# Altium integrated library Infineon_Power_MOSFET.IntLib: 1448 symbols (part 13 of 47)
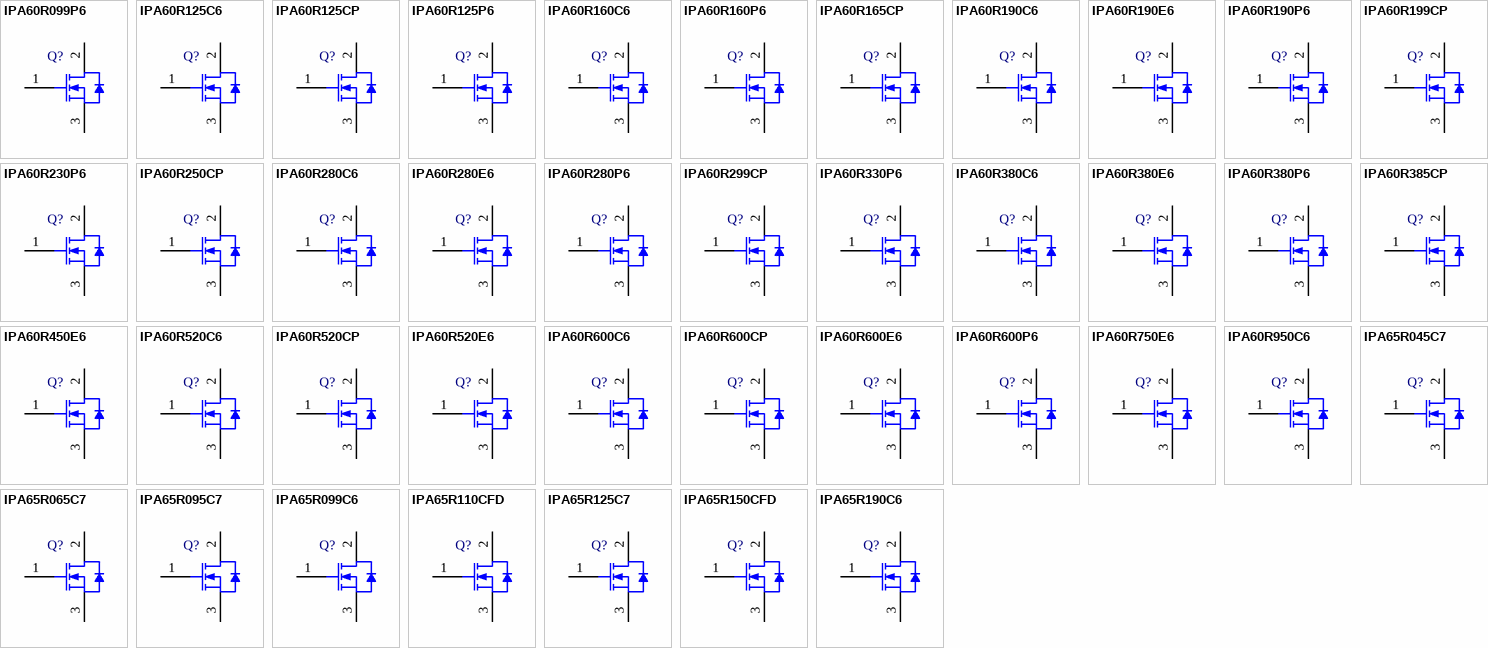
[diagram p49: symbols IPA60R099P6 to IPA65R190C6]

## IPA60R190E6
designator Q?
N-Channel CoolMOS E6 Power-Transistor, 600 V VDS, 20.2 A ID, -55 to 150 degC, PG-TO220-3-31, Tube, Green; Manufacturer: Infineon; PartNumber: IPA60R190E6; Green: TRUE; ID (max): 20.2 A; IDpuls (max): 59 A; Polarity: N; Ptot (max): 34 W; QG: 63 nC; RDS (on) (max): 190 mOhm; Rth: 3.7 K/W; RthJA (max): 80 K/W; VDS (max): 600 V; VGS(th) (max): 3.5 V; VGS(th) (min): 2.5 V; DatasheetVersion: Rev. 2.0; PackageVersion: Jan-07; PackageReference: PG-TO220-3-31; PackageDescription: 3-Pin Plastic (Green) Transistor Single Outline Package, 10.5 x 9.68 mm Body, 2.54 mm Pitch; Supplier 1: Mouser; Supplier Part Number 1: 726-IPA60R190E6; Supplier 2: Digi-Key; Supplier Part Number 2: IPA60R190E6-ND; Halogen-free: TRUE; Packing: Tube; RthJC (max): 3.7 K/W; Technology: CoolMOS E6; Mounting Technology: Through Hole; ComponentLink1Description: Manufacturer URL; ComponentLink1URL: http://www.infineon.com/; ComponentLink2Description: Datasheet; ComponentLink2URL: http://www.infineon.com/dgdl/IPA60R190E6_2_0.pdf?folderId=db3a3043156fd5730115c736bcc70ff2&fileId=db3a3043284aacd801286c9f28472921; ComponentLink3Description: Package Specification; ComponentLink3URL: http://www.infineon.com/dgdl/IPA093N06N3_Rev2+0.pdf?folderId=db3a30431441fb5d01148ca9f1be0e77&fileId=db3a3043284aacd8012882bf84115438
footprint INF-PG-TO220-3-31 (FM, 3-Leads, Body 10.5x4.7mm, Pitch 2.54mm)
pins: 1 GATE, 2 DRAIN, 3 SOURCE

## IPA60R190P6
designator Q?
N-Channel CoolMOS(TM) P6 Power Transistor, 600 V VDS, -55 to 150 degC, PG-TO220, Tube, Green; Manufacturer: Infineon; PartNumber: IPA60R190P6; Green: TRUE; Polarity: FALSE; RDS (on) (max): 190 mOhm; VDS (max): 600 V; DatasheetVersion: Rev. 2.1; PackageVersion: Jan-07; PackageReference: PG-TO220-FP; PackageDescription: 3-Pin Plastic (Green) Transistor Single Outline Package, 10.5 x 9.68 mm Body, 2.54 mm Pitch; Supplier 1: Digi-Key; Supplier Part Number 1: IPA60R190P6-ND; Supplier 2: Farnell; Supplier Part Number 2: 2420503; Supplier 3: Newark; Supplier Part Number 3: 54X5220; Halogen-free: TRUE; Packing: Tube; Mounting Technology: Through Hole; ComponentLink1Description: Manufacturer URL; ComponentLink1URL: http://www.infineon.com/; ComponentLink2Description: Datasheet; ComponentLink2URL: http://www.infineon.com/dgdl/DS_IPx60R190P6_2_1.pdf?folderId=db3a3043156fd5730115c736bcc70ff2&fileId=db3a30433f2e70c5013f37c80e24240f; ComponentLink3Description: Package Specification; ComponentLink3URL: http://www.infineon.com/dgdl/DS_IPx60R099P6_2_0.pdf?folderId=db3a3043156fd5730115c736bcc70ff2&fileId=5546d461464245d301468f0e6251673a
footprint INF-PG-TO220-FP (FM, 3-Leads, Body 10.5x4.7mm, Pitch 2.54mm)
pins: 1 GATE, 2 DRAIN, 3 SOURCE

## IPA60R199CP
designator Q?
N-Channel CoolMOS Power-Transistor, 600 V VDS, 16 A ID, -55 to 150 degC, PG-TO220-3-31, Tube, Green; Manufacturer: Infineon; PartNumber: IPA60R199CP; Green: TRUE; ID (max): 16 A; IDpuls (max): 51 A; Polarity: N; Ptot (max): 34 W; QG: 32 nC; RDS (on) (max): 199 mOhm; Rth: 3.7 K/W; RthJA (max): 80 K/W; VDS (max): 600 V; VGS(th) (max): 3.5 V; VGS(th) (min): 2.5 V; DatasheetVersion: Rev. 2.2; PackageVersion: Jan-07; PackageReference: PG-TO220-3-31; PackageDescription: 3-Pin Plastic (Green) Transistor Single Outline Package, 10.5 x 9.68 mm Body, 2.54 mm Pitch; Supplier 1: Mouser; Supplier Part Number 1: 726-IPA60R199CP; Supplier 2: Newark; Supplier Part Number 2: 33P7116; Supplier 3: Farnell; Supplier Part Number 3: 1663995; Supplier 4: Digi-Key; Supplier Part Number 4: IPA60R199CP-ND; Halogen-free: TRUE; Packing: Tube; RthJC (max): 3.7 K/W; Technology: CoolMOS CP; Mounting Technology: Through Hole; ComponentLink1Description: Manufacturer URL; ComponentLink1URL: http://www.infineon.com/; ComponentLink2Description: Datasheet; ComponentLink2URL: http://www.infineon.com/dgdl/IPA60R199CP_rev2.2.pdf?folderId=db3a304412b407950112b408e8c90004&fileId=db3a304412b407950112b42c720946ff; ComponentLink3Description: Package Specification; ComponentLink3URL: http://www.infineon.com/dgdl/IPA093N06N3_Rev2+0.pdf?folderId=db3a30431441fb5d01148ca9f1be0e77&fileId=db3a3043284aacd8012882bf84115438
footprint INF-PG-TO220-3-31 (FM, 3-Leads, Body 10.5x4.7mm, Pitch 2.54mm)
pins: 1 GATE, 2 DRAIN, 3 SOURCE

## IPA60R230P6
designator Q?
N-Channel CoolMOS(TM) P6 Power Transistor, 600 V VDS, -55 to 150 degC, PG-TO220, Tube, Green; Manufacturer: Infineon; PartNumber: IPA60R230P6; Green: TRUE; Polarity: FALSE; RDS (on) (max): 230 mOhm; VDS (max): 600 V; DatasheetVersion: Rev. 2.1; PackageVersion: Jan-07; PackageReference: PG-TO220-FP; PackageDescription: 3-Pin Plastic (Green) Transistor Single Outline Package, 10.5 x 9.68 mm Body, 2.54 mm Pitch; Supplier 1: Mouser; Supplier Part Number 1: N/A; Halogen-free: TRUE; Packing: Tube; Mounting Technology: Through Hole; ComponentLink1Description: Manufacturer URL; ComponentLink1URL: http://www.infineon.com/; ComponentLink2Description: Datasheet; ComponentLink2URL: http://www.infineon.com/dgdl/DS_IPx60R230P6_2_1.pdf?folderId=db3a3043156fd5730115c736bcc70ff2&fileId=db3a3043414fd3ef01415f8ab7321ec1; ComponentLink3Description: Package Specification; ComponentLink3URL: http://www.infineon.com/dgdl/DS_IPx60R099P6_2_0.pdf?folderId=db3a3043156fd5730115c736bcc70ff2&fileId=5546d461464245d301468f0e6251673a
footprint INF-PG-TO220-FP (FM, 3-Leads, Body 10.5x4.7mm, Pitch 2.54mm)
pins: 1 GATE, 2 DRAIN, 3 SOURCE

## IPA60R250CP
designator Q?
N-Channel CoolMOS Power-Transistor, 600 V VDS, 12 A ID, -55 to 150 degC, PG-TO220-3-31, Tube, Green; Manufacturer: Infineon; PartNumber: IPA60R250CP; Green: TRUE; ID (max): 12 A; IDpuls (max): 40 A; Polarity: N; Ptot (max): 33 W; QG: 26 nC; RDS (on) (max): 250 mOhm; Rth: 3.75 K/W; RthJA (max): 80 K/W; VDS (max): 600 V; VGS(th) (max): 3.5 V; VGS(th) (min): 2.5 V; DatasheetVersion: Rev. 2.1; PackageVersion: Jan-07; PackageReference: PG-TO220-3-31; PackageDescription: 3-Pin Plastic (Green) Transistor Single Outline Package, 10.5 x 9.68 mm Body, 2.54 mm Pitch; Supplier 1: Mouser; Supplier Part Number 1: 726-IPA60R250CP; Supplier 2: Digi-Key; Supplier Part Number 2: IPA60R250CP-ND; Halogen-free: TRUE; Packing: Tube; RthJC (max): 3.75 K/W; Technology: CoolMOS CP; Mounting Technology: Through Hole; ComponentLink1Description: Manufacturer URL; ComponentLink1URL: http://www.infineon.com/; ComponentLink2Description: Datasheet; ComponentLink2URL: http://www.infineon.com/dgdl/IPA60R250CP_rev2.1.pdf?folderId=db3a304314dca38901152837f87d12ad&fileId=db3a30431689f4420116d2f02e970bfa; ComponentLink3Description: Package Specification; ComponentLink3URL: http://www.infineon.com/dgdl/IPA093N06N3_Rev2+0.pdf?folderId=db3a30431441fb5d01148ca9f1be0e77&fileId=db3a3043284aacd8012882bf84115438
footprint INF-PG-TO220-3-31 (FM, 3-Leads, Body 10.5x4.7mm, Pitch 2.54mm)
pins: 1 GATE, 2 DRAIN, 3 SOURCE

## IPA60R280C6
designator Q?
N-Channel CoolMOS C6 Power-Transistor, 600 V VDS, 13.8 A ID, -55 to 150 degC, PG-TO220-3-31, Tube, Green; Manufacturer: Infineon; PartNumber: IPA60R280C6; Green: TRUE; ID (max): 13.8 A; IDpuls (max): 40 A; Polarity: N; Ptot (max): 32 W; QG: 43 nC; RDS (on) (max): 280 mOhm; Rth: 3.9 K/W; RthJA (max): 80 K/W; VDS (max): 600 V; VGS(th) (max): 3.5 V; VGS(th) (min): 2.5 V; DatasheetVersion: Rev. 2.1; PackageVersion: Jan-07; PackageReference: PG-TO220-3-31; PackageDescription: 3-Pin Plastic (Green) Transistor Single Outline Package, 10.5 x 9.68 mm Body, 2.54 mm Pitch; Supplier 1: Mouser; Supplier Part Number 1: 726-IPA60R280C6; Supplier 2: Digi-Key; Supplier Part Number 2: IPA60R280C6-ND; Halogen-free: TRUE; Packing: Tube; RthJC (max): 3.9 K/W; Technology: CoolMOS C6; Mounting Technology: Through Hole; ComponentLink1Description: Manufacturer URL; ComponentLink1URL: http://www.infineon.com/; ComponentLink2Description: Datasheet; ComponentLink2URL: http://www.infineon.com/dgdl/IPA60R280C6_2_1.pdf?folderId=db3a3043163797a6011638933eda014b&fileId=db3a30432313ff5e01239ddb46a66f73; ComponentLink3Description: Package Specification; ComponentLink3URL: http://www.infineon.com/dgdl/IPA093N06N3_Rev2+0.pdf?folderId=db3a30431441fb5d01148ca9f1be0e77&fileId=db3a3043284aacd8012882bf84115438
footprint INF-PG-TO220-3-31 (FM, 3-Leads, Body 10.5x4.7mm, Pitch 2.54mm)
pins: 1 GATE, 2 DRAIN, 3 SOURCE

## IPA60R280E6
designator Q?
N-Channel CoolMOS E6 Power-Transistor, 600 V VDS, 13.8 A ID, -55 to 150 degC, PG-TO220-3-31, Tube, Green; Manufacturer: Infineon; PartNumber: IPA60R280E6; Green: TRUE; ID (max): 13.8 A; IDpuls (max): 40 A; Polarity: N; Ptot (max): 32 W; QG: 43 nC; RDS (on) (max): 280 mOhm; Rth: 3.9 K/W; RthJA (max): 80 K/W; VDS (max): 600 V; VGS(th) (max): 3.5 V; VGS(th) (min): 2.5 V; DatasheetVersion: Rev. 2.0; PackageVersion: Jan-07; PackageReference: PG-TO220-3-31; PackageDescription: 3-Pin Plastic (Green) Transistor Single Outline Package, 10.5 x 9.68 mm Body, 2.54 mm Pitch; Supplier 1: Mouser; Supplier Part Number 1: 726-IPA60R280E6; Supplier 2: Digi-Key; Supplier Part Number 2: IPA60R280E6-ND; Halogen-free: TRUE; Packing: Tube; RthJC (max): 3.9 K/W; Technology: CoolMOS E6; Mounting Technology: Through Hole; ComponentLink1Description: Manufacturer URL; ComponentLink1URL: http://www.infineon.com/; ComponentLink2Description: Datasheet; ComponentLink2URL: http://www.infineon.com/dgdl/IPA60R280E6_2.0.pdf?folderId=db3a3043163797a6011638933eda014b&fileId=db3a304327b8975001281f9863f444e6; ComponentLink3Description: Package Specification; ComponentLink3URL: http://www.infineon.com/dgdl/IPA093N06N3_Rev2+0.pdf?folderId=db3a30431441fb5d01148ca9f1be0e77&fileId=db3a3043284aacd8012882bf84115438
footprint INF-PG-TO220-3-31 (FM, 3-Leads, Body 10.5x4.7mm, Pitch 2.54mm)
pins: 1 GATE, 2 DRAIN, 3 SOURCE

## IPA60R280P6
designator Q?
N-Channel CoolMOS(TM) P6 Power Transistor, 600 V VDS, -55 to 150 degC, PG-TO220, Reel, Green; Manufacturer: Infineon; PartNumber: IPA60R280P6; Green: TRUE; Polarity: FALSE; RDS (on) (max): 280 mOhm; VDS (max): 600 V; DatasheetVersion: Rev. 2.1; PackageVersion: Jan-07; PackageReference: PG-TO220-FP; PackageDescription: 3-Pin Plastic (Green) Transistor Single Outline Package, 10.5 x 9.68 mm Body, 2.54 mm Pitch; Supplier 1: Farnell; Supplier Part Number 1: 2420502; Supplier 2: Newark; Supplier Part Number 2: 54X5221; Halogen-free: TRUE; Packing: Reel; Mounting Technology: Through Hole; ComponentLink1Description: Manufacturer URL; ComponentLink1URL: http://www.infineon.com/; ComponentLink2Description: Datasheet; ComponentLink2URL: http://www.infineon.com/dgdl/DS_IPx60R280P6_2_1.pdf?folderId=db3a3043156fd5730115c736bcc70ff2&fileId=db3a3043416e106e01416e269e3e0021; ComponentLink3Description: Package Specification; ComponentLink3URL: http://www.infineon.com/dgdl/DS_IPx60R099P6_2_0.pdf?folderId=db3a3043156fd5730115c736bcc70ff2&fileId=5546d461464245d301468f0e6251673a
footprint INF-PG-TO220-FP (FM, 3-Leads, Body 10.5x4.7mm, Pitch 2.54mm)
pins: 1 GATE, 2 DRAIN, 3 SOURCE

## IPA60R299CP
designator Q?
N-Channel CoolMOS Power-Transistor, 600 V VDS, 11 A ID, -55 to 150 degC, PG-TO220-3-31, Tube, Green; Manufacturer: Infineon; PartNumber: IPA60R299CP; Green: TRUE; ID (max): 11 A; IDpuls (max): 34 A; Polarity: N; Ptot (max): 33 W; QG: 22 nC; RDS (on) (max): 299 mOhm; Rth: 3.8 K/W; RthJA (max): 80 K/W; VDS (max): 600 V; VGS(th) (max): 3.5 V; VGS(th) (min): 2.5 V; DatasheetVersion: Rev. 2.1; PackageVersion: Jan-07; PackageReference: PG-TO220-3-31; PackageDescription: 3-Pin Plastic (Green) Transistor Single Outline Package, 10.5 x 9.68 mm Body, 2.54 mm Pitch; Supplier 1: Mouser; Supplier Part Number 1: 726-IPA60R299CP; Supplier 2: Farnell; Supplier Part Number 2: 1663997; Supplier 3: Digi-Key; Supplier Part Number 3: IPA60R299CP-ND; Halogen-free: TRUE; Packing: Tube; RthJC (max): 3.8 K/W; Technology: CoolMOS CP; Mounting Technology: Through Hole; ComponentLink1Description: Manufacturer URL; ComponentLink1URL: http://www.infineon.com/; ComponentLink2Description: Datasheet; ComponentLink2URL: http://www.infineon.com/dgdl/IPA60R299CP_rev2.1.pdf?folderId=db3a304412b407950112b408e8c90004&fileId=db3a304412b407950112b42e706449c7; ComponentLink3Description: Package Specification; ComponentLink3URL: http://www.infineon.com/dgdl/IPA093N06N3_Rev2+0.pdf?folderId=db3a30431441fb5d01148ca9f1be0e77&fileId=db3a3043284aacd8012882bf84115438
footprint INF-PG-TO220-3-31 (FM, 3-Leads, Body 10.5x4.7mm, Pitch 2.54mm)
pins: 1 GATE, 2 DRAIN, 3 SOURCE

## IPA60R330P6
designator Q?
N-Channel CoolMOS(TM) P6 Power Transistor, 600 V VDS, -55 to 150 degC, PG-TO220, Reel, Green; Manufacturer: Infineon; PartNumber: IPA60R330P6; Green: TRUE; Polarity: FALSE; RDS (on) (max): 330 mOhm; VDS (max): 600 V; DatasheetVersion: Rev. 2.1; PackageVersion: Jan-07; PackageReference: PG-TO220-FP; PackageDescription: 3-Pin Plastic (Green) Transistor Single Outline Package, 10.5 x 9.68 mm Body, 2.54 mm Pitch; Supplier 1: Mouser; Supplier Part Number 1: N/A; Halogen-free: TRUE; Packing: Reel; Mounting Technology: Through Hole; ComponentLink1Description: Manufacturer URL; ComponentLink1URL: http://www.infineon.com/; ComponentLink2Description: Datasheet; ComponentLink2URL: http://www.infineon.com/dgdl/DS_IPx60R330P6_2_1.pdf?folderId=db3a3043156fd5730115c736bcc70ff2&fileId=db3a3043416e106e01416e6a5f240149; ComponentLink3Description: Package Specification; ComponentLink3URL: http://www.infineon.com/dgdl/DS_IPx60R099P6_2_0.pdf?folderId=db3a3043156fd5730115c736bcc70ff2&fileId=5546d461464245d301468f0e6251673a
footprint INF-PG-TO220-FP (FM, 3-Leads, Body 10.5x4.7mm, Pitch 2.54mm)
pins: 1 GATE, 2 DRAIN, 3 SOURCE

## IPA60R380C6
designator Q?
N-Channel CoolMOS C6 Power-Transistor, 600 V VDS, 10.6 A ID, -55 to 150 degC, PG-TO220-3-31, Tube, Green; Manufacturer: Infineon; PartNumber: IPA60R380C6; Green: TRUE; ID (max): 10.6 A; IDpuls (max): 30 A; Polarity: N; Ptot (max): 31 W; QG: 32 nC; RDS (on) (max): 380 mOhm; Rth: 4 K/W; RthJA (max): 80 K/W; VDS (max): 600 V; VGS(th) (max): 3.5 V; VGS(th) (min): 2.5 V; DatasheetVersion: Rev. 2.0; PackageVersion: Jan-07; PackageReference: PG-TO220-3-31; PackageDescription: 3-Pin Plastic (Green) Transistor Single Outline Package, 10.5 x 9.68 mm Body, 2.54 mm Pitch; Supplier 1: Mouser; Supplier Part Number 1: 726-IPA60R380C6XK; Supplier 2: Digi-Key; Supplier Part Number 2: IPA60R380C6-ND; Halogen-free: TRUE; Packing: Tube; RthJC (max): 4 K/W; Technology: CoolMOS C6; Mounting Technology: Through Hole; ComponentLink1Description: Manufacturer URL; ComponentLink1URL: http://www.infineon.com/; ComponentLink2Description: Datasheet; ComponentLink2URL: http://www.infineon.com/dgdl/IPA60R380C6_2_0.pdf?folderId=db3a30431ff98815012019af55de3f2c&fileId=db3a30432239cccd012297c0f44d444b; ComponentLink3Description: Package Specification; ComponentLink3URL: http://www.infineon.com/dgdl/IPA093N06N3_Rev2+0.pdf?folderId=db3a30431441fb5d01148ca9f1be0e77&fileId=db3a3043284aacd8012882bf84115438
footprint INF-PG-TO220-3-31 (FM, 3-Leads, Body 10.5x4.7mm, Pitch 2.54mm)
pins: 1 GATE, 2 DRAIN, 3 SOURCE

## IPA60R380E6
designator Q?
N-Channel CoolMOS E6 Power-Transistor, 600 V VDS, 10.6 A ID, -55 to 150 degC, PG-TO220-3-31, Tube, Green; Manufacturer: Infineon; PartNumber: IPA60R380E6; Green: TRUE; ID (max): 10.6 A; IDpuls (max): 30 A; Polarity: N; Ptot (max): 31 W; QG: 32 nC; RDS (on) (max): 380 mOhm; Rth: 4 K/W; RthJA (max): 80 K/W; VDS (max): 600 V; VGS(th) (max): 3.5 V; VGS(th) (min): 2.5 V; DatasheetVersion: Rev. 2.0; PackageVersion: Jan-07; PackageReference: PG-TO220-3-31; PackageDescription: 3-Pin Plastic (Green) Transistor Single Outline Package, 10.5 x 9.68 mm Body, 2.54 mm Pitch; Supplier 1: Mouser; Supplier Part Number 1: 726-IPA60R380E6; Supplier 2: Digi-Key; Supplier Part Number 2: IPA60R380E6-ND; Halogen-free: TRUE; Packing: Tube; RthJC (max): 4 K/W; Technology: CoolMOS E6; Mounting Technology: Through Hole; ComponentLink1Description: Manufacturer URL; ComponentLink1URL: http://www.infineon.com/; ComponentLink2Description: Datasheet; ComponentLink2URL: http://www.infineon.com/dgdl/IPP60R380E6_2_1.pdf?folderId=db3a3043163797a6011637d4bae7003b&fileId=db3a30433a747525013a78d0c79b58fe; ComponentLink3Description: Package Specification; ComponentLink3URL: http://www.infineon.com/dgdl/IPA093N06N3_Rev2+0.pdf?folderId=db3a30431441fb5d01148ca9f1be0e77&fileId=db3a3043284aacd8012882bf84115438
footprint INF-PG-TO220-3-31 (FM, 3-Leads, Body 10.5x4.7mm, Pitch 2.54mm)
pins: 1 GATE, 2 DRAIN, 3 SOURCE

## IPA60R380P6
designator Q?
N-Channel CoolMOS(TM) P6 Power Transistor, 600 V VDS, -55 to 150 degC, PG-TO220, Reel, Green; Manufacturer: Infineon; PartNumber: IPA60R380P6; Green: TRUE; Polarity: FALSE; RDS (on) (max): 380 mOhm; VDS (max): 600 V; DatasheetVersion: Rev. 2.1; PackageVersion: Jan-07; PackageReference: PG-TO220-FP; PackageDescription: 3-Pin Plastic (Green) Transistor Single Outline Package, 10.5 x 9.68 mm Body, 2.54 mm Pitch; Supplier 1: Farnell; Supplier Part Number 1: 2420501; Supplier 2: Newark; Supplier Part Number 2: 54X5222; Supplier 3: Mouser; Supplier Part Number 3: N/A; Halogen-free: TRUE; Packing: Reel; Mounting Technology: Through Hole; ComponentLink1Description: Manufacturer URL; ComponentLink1URL: http://www.infineon.com/; ComponentLink2Description: Datasheet; ComponentLink2URL: http://www.infineon.com/dgdl/DS_IPx60R380P6_2_1.pdf?folderId=db3a3043156fd5730115c736bcc70ff2&fileId=db3a3043416e106e01416e9316410203; ComponentLink3Description: Package Specification; ComponentLink3URL: http://www.infineon.com/dgdl/DS_IPx60R099P6_2_0.pdf?folderId=db3a3043156fd5730115c736bcc70ff2&fileId=5546d461464245d301468f0e6251673a
footprint INF-PG-TO220-FP (FM, 3-Leads, Body 10.5x4.7mm, Pitch 2.54mm)
pins: 1 GATE, 2 DRAIN, 3 SOURCE

## IPA60R385CP
designator Q?
N-Channel CoolMOS Power-Transistor, 600 V VDS, 9 A ID, -55 to 150 degC, PG-TO220-3-31, Tube, Green; Manufacturer: Infineon; PartNumber: IPA60R385CP; Green: TRUE; ID (max): 9 A; IDpuls (max): 27 A; Polarity: N; Ptot (max): 31 W; QG: 17 nC; RDS (on) (max): 385 mOhm; Rth: 4 K/W; RthJA (max): 80 K/W; VDS (max): 600 V; VGS(th) (max): 3.5 V; VGS(th) (min): 2.5 V; DatasheetVersion: Rev. 2.2; PackageVersion: Jan-07; PackageReference: PG-TO220-3-31; PackageDescription: 3-Pin Plastic (Green) Transistor Single Outline Package, 10.5 x 9.68 mm Body, 2.54 mm Pitch; Supplier 1: Mouser; Supplier Part Number 1: 726-IPA60R385CP; Supplier 2: Newark; Supplier Part Number 2: 33P7119; Supplier 3: Farnell; Supplier Part Number 3: 1663998; Supplier 4: Digi-Key; Supplier Part Number 4: IPA60R385CP-ND; Halogen-free: TRUE; Packing: Tube; RthJC (max): 4 K/W; Technology: CoolMOS CP; Mounting Technology: Through Hole; ComponentLink1Description: Manufacturer URL; ComponentLink1URL: http://www.infineon.com/; ComponentLink2Description: Datasheet; ComponentLink2URL: http://www.infineon.com/dgdl/IPA60R385CP_rev2.2.pdf?folderId=db3a304412b407950112b408e8c90004&fileId=db3a304412b407950112b42e738049cb; ComponentLink3Description: Package Specification; ComponentLink3URL: http://www.infineon.com/dgdl/IPA093N06N3_Rev2+0.pdf?folderId=db3a30431441fb5d01148ca9f1be0e77&fileId=db3a3043284aacd8012882bf84115438
footprint INF-PG-TO220-3-31 (FM, 3-Leads, Body 10.5x4.7mm, Pitch 2.54mm)
pins: 1 GATE, 2 DRAIN, 3 SOURCE

## IPA60R450E6
designator Q?
N-Channel CoolMOS E6 Power-Transistor, 600 V VDS, 9.2 A ID, -55 to 150 degC, PG-TO220-3-31, Tube, Green; Manufacturer: Infineon; PartNumber: IPA60R450E6; Green: TRUE; ID (max): 9.2 A; IDpuls (max): 26 A; Polarity: N; Ptot (max): 30 W; QG: 28 nC; RDS (on) (max): 450 mOhm; Rth: 4.2 K/W; RthJA (max): 80 K/W; VDS (max): 600 V; VGS(th) (max): 3.5 V; VGS(th) (min): 2.5 V; DatasheetVersion: Rev. 2.0; PackageVersion: Jan-07; PackageReference: PG-TO220-3-31; PackageDescription: 3-Pin Plastic (Green) Transistor Single Outline Package, 10.5 x 9.68 mm Body, 2.54 mm Pitch; Supplier 1: Mouser; Supplier Part Number 1: 726-IPA60R450E6; Supplier 2: Digi-Key; Supplier Part Number 2: IPA60R450E6-ND; Halogen-free: TRUE; Packing: Tube; RthJC (max): 4.2 K/W; Technology: CoolMOS E6; Mounting Technology: Through Hole; ComponentLink1Description: Manufacturer URL; ComponentLink1URL: http://www.infineon.com/; ComponentLink2Description: Datasheet; ComponentLink2URL: http://www.infineon.com/dgdl/IPA60R450E6_2_0.pdf?folderId=db3a3043156fd5730115c736bcc70ff2&fileId=db3a30432a14dd54012a195ecc5f2b20; ComponentLink3Description: Package Specification; ComponentLink3URL: http://www.infineon.com/dgdl/IPA093N06N3_Rev2+0.pdf?folderId=db3a30431441fb5d01148ca9f1be0e77&fileId=db3a3043284aacd8012882bf84115438
footprint INF-PG-TO220-3-31 (FM, 3-Leads, Body 10.5x4.7mm, Pitch 2.54mm)
pins: 1 GATE, 2 DRAIN, 3 SOURCE

## IPA60R520C6
designator Q?
N-Channel CoolMOS C6 Power-Transistor, 600 V VDS, 8.1 A ID, -55 to 150 degC, PG-TO220-3-31, Tube, Green; Manufacturer: Infineon; PartNumber: IPA60R520C6; Green: TRUE; ID (max): 8.1 A; IDpuls (max): 22 A; Polarity: N; Ptot (max): 29 W; QG: 23.4 nC; RDS (on) (max): 520 mOhm; Rth: 4.3 K/W; RthJA (max): 80 K/W; VDS (max): 600 V; VGS(th) (max): 3.5 V; VGS(th) (min): 2.5 V; DatasheetVersion: Rev. 2.0; PackageVersion: Jan-07; PackageReference: PG-TO220-3-31; PackageDescription: 3-Pin Plastic (Green) Transistor Single Outline Package, 10.5 x 9.68 mm Body, 2.54 mm Pitch; Supplier 1: Mouser; Supplier Part Number 1: 726-IPA60R520C6; Supplier 2: Digi-Key; Supplier Part Number 2: IPA60R520C6-ND; Halogen-free: TRUE; Packing: Tube; RthJC (max): 4.3 K/W; Technology: CoolMOS C6; Mounting Technology: Through Hole; ComponentLink1Description: Manufacturer URL; ComponentLink1URL: http://www.infineon.com/; ComponentLink2Description: Datasheet; ComponentLink2URL: http://www.infineon.com/dgdl/IPA60R520C6_2.0.pdf?folderId=db3a3043163797a6011638933eda014b&fileId=db3a304323b87bc20123e692d7945920; ComponentLink3Description: Package Specification; ComponentLink3URL: http://www.infineon.com/dgdl/IPA093N06N3_Rev2+0.pdf?folderId=db3a30431441fb5d01148ca9f1be0e77&fileId=db3a3043284aacd8012882bf84115438
footprint INF-PG-TO220-3-31 (FM, 3-Leads, Body 10.5x4.7mm, Pitch 2.54mm)
pins: 1 GATE, 2 DRAIN, 3 SOURCE

## IPA60R520CP
designator Q?
N-Channel CoolMOS Power-Transistor, 600 V VDS, 6.8 A ID, -55 to 150 degC, PG-TO220-3-31, Tube, Green; Manufacturer: Infineon; PartNumber: IPA60R520CP; Green: TRUE; ID (max): 6.8 A; IDpuls (max): 17 A; Polarity: N; Ptot (max): 30 W; QG: 24 nC; RDS (on) (max): 520 mOhm; Rth: 4.2 K/W; RthJA (max): 62 K/W; VDS (max): 600 V; VGS(th) (max): 3.5 V; VGS(th) (min): 2.5 V; DatasheetVersion: Rev. 2.1; PackageVersion: Jan-07; PackageReference: PG-TO220-3-31; PackageDescription: 3-Pin Plastic (Green) Transistor Single Outline Package, 10.5 x 9.68 mm Body, 2.54 mm Pitch; Supplier 1: Mouser; Supplier Part Number 1: 726-IPA60R520CP; Supplier 2: Newark; Supplier Part Number 2: 33P7120; Supplier 3: Farnell; Supplier Part Number 3: 1664000; Supplier 4: Digi-Key; Supplier Part Number 4: IPA60R520CP-ND; Halogen-free: TRUE; Packing: Tube; RthJC (max): 4.2 K/W; Technology: CoolMOS CP; Mounting Technology: Through Hole; ComponentLink1Description: Manufacturer URL; ComponentLink1URL: http://www.infineon.com/; ComponentLink2Description: Datasheet; ComponentLink2URL: http://www.infineon.com/dgdl/IPA60R520CP_rev2.1.pdf?folderId=db3a3043163797a6011637d4bae7003b&fileId=db3a3043183a95550118792bfde80453; ComponentLink3Description: Package Specification; ComponentLink3URL: http://www.infineon.com/dgdl/IPA093N06N3_Rev2+0.pdf?folderId=db3a30431441fb5d01148ca9f1be0e77&fileId=db3a3043284aacd8012882bf84115438
footprint INF-PG-TO220-3-31 (FM, 3-Leads, Body 10.5x4.7mm, Pitch 2.54mm)
pins: 1 GATE, 2 DRAIN, 3 SOURCE

## IPA60R520E6
designator Q?
N-Channel CoolMOS E6 Power-Transistor, 600 V VDS, 8.1 A ID, -55 to 150 degC, PG-TO220-3-31, Tube, Green; Manufacturer: Infineon; PartNumber: IPA60R520E6; Green: TRUE; ID (max): 8.1 A; IDpuls (max): 22 A; Polarity: N; Ptot (max): 29 W; QG: 23.4 nC; RDS (on) (max): 520 mOhm; Rth: 4.3 K/W; RthJA (max): 80 K/W; VDS (max): 600 V; VGS(th) (max): 3.5 V; VGS(th) (min): 2.5 V; DatasheetVersion: Rev. 2.0; PackageVersion: Jan-07; PackageReference: PG-TO220-3-31; PackageDescription: 3-Pin Plastic (Green) Transistor Single Outline Package, 10.5 x 9.68 mm Body, 2.54 mm Pitch; Supplier 1: Mouser; Supplier Part Number 1: 726-IPA60R520E6; Supplier 2: Newark; Supplier Part Number 2: 47W3459; Supplier 3: Farnell; Supplier Part Number 3: 2212895; Supplier 4: Digi-Key; Supplier Part Number 4: IPA60R520E6-ND; Halogen-free: TRUE; Packing: Tube; RthJC (max): 4.3 K/W; Technology: CoolMOS E6; Mounting Technology: Through Hole; ComponentLink1Description: Manufacturer URL; ComponentLink1URL: http://www.infineon.com/; ComponentLink2Description: Datasheet; ComponentLink2URL: http://www.infineon.com/dgdl/IPA60R520E6_2_0.pdf?folderId=db3a3043163797a6011638933eda014b&fileId=db3a304327b8975001281b93a0c71ae6; ComponentLink3Description: Package Specification; ComponentLink3URL: http://www.infineon.com/dgdl/IPA093N06N3_Rev2+0.pdf?folderId=db3a30431441fb5d01148ca9f1be0e77&fileId=db3a3043284aacd8012882bf84115438
footprint INF-PG-TO220-3-31 (FM, 3-Leads, Body 10.5x4.7mm, Pitch 2.54mm)
pins: 1 GATE, 2 DRAIN, 3 SOURCE

## IPA60R600C6
designator Q?
N-Channel CoolMOS C6 Power-Transistor, 600 V VDS, 7.3 A ID, -55 to 150 degC, PG-TO220-3-31, Tube, Green; Manufacturer: Infineon; PartNumber: IPA60R600C6; Green: TRUE; ID (max): 7.3 A; IDpuls (max): 19 A; Polarity: N; Ptot (max): 28 W; QG: 20.5 nC; RDS (on) (max): 600 mOhm; Rth: 4.5 K/W; RthJA (max): 80 K/W; VDS (max): 600 V; VGS(th) (max): 3.5 V; VGS(th) (min): 2.5 V; DatasheetVersion: Rev. 2.0; PackageVersion: Jan-07; PackageReference: PG-TO220-3-31; PackageDescription: 3-Pin Plastic (Green) Transistor Single Outline Package, 10.5 x 9.68 mm Body, 2.54 mm Pitch; Supplier 1: Mouser; Supplier Part Number 1: 726-IPA60R600C6; Supplier 2: Digi-Key; Supplier Part Number 2: IPA60R600C6-ND; Halogen-free: TRUE; Packing: Tube; RthJC (max): 4.5 K/W; Technology: CoolMOS C6; Mounting Technology: Through Hole; ComponentLink1Description: Manufacturer URL; ComponentLink1URL: http://www.infineon.com/; ComponentLink2Description: Datasheet; ComponentLink2URL: http://www.infineon.com/dgdl/IPA60R600C6_2_0.pdf?folderId=db3a30431ff98815012019af55de3f2c&fileId=db3a30432239cccd0122a824c1c27d62; ComponentLink3Description: Package Specification; ComponentLink3URL: http://www.infineon.com/dgdl/IPA093N06N3_Rev2+0.pdf?folderId=db3a30431441fb5d01148ca9f1be0e77&fileId=db3a3043284aacd8012882bf84115438
footprint INF-PG-TO220-3-31 (FM, 3-Leads, Body 10.5x4.7mm, Pitch 2.54mm)
pins: 1 GATE, 2 DRAIN, 3 SOURCE

## IPA60R600CP
designator Q?
N-Channel CoolMOS Power-Transistor, 600 V VDS, 6.1 A ID, -55 to 150 degC, PG-TO220-FP, Tube, Green; Manufacturer: Infineon; PartNumber: IPA60R600CP; Green: TRUE; ID (max): 6.1 A; IDpuls (max): 15 A; Polarity: N; Ptot (max): 28 W; QG: 21 nC; RDS (on) (max): 600 mOhm; Rth: 4.5 K/W; RthJA (max): 62 K/W; VDS (max): 600 V; VGS(th) (max): 3.5 V; VGS(th) (min): 2.5 V; DatasheetVersion: Rev. 2.0; PackageVersion: Jan-07; PackageReference: PG-TO220-FP; PackageDescription: 3-Pin Plastic (Green) Transistor Single Outline Package, 10.5 x 9.68 mm Body, 2.54 mm Pitch; Supplier 1: Newark; Supplier Part Number 1: 33P7121; Supplier 2: Farnell; Supplier Part Number 2: 1664002; Supplier 3: Digi-Key; Supplier Part Number 3: IPA60R600CP-ND; Halogen-free: TRUE; Packing: Tube; RthJC (max): 4.5 K/W; Technology: CoolMOS CP; Mounting Technology: Through Hole; ComponentLink1Description: Manufacturer URL; ComponentLink1URL: http://www.infineon.com/; ComponentLink2Description: Datasheet; ComponentLink2URL: http://www.infineon.com/dgdl/IPA60R600CP_rev2.0.pdf?folderId=db3a3043163797a6011637d4bae7003b&fileId=db3a3043183a95550118792d4e540458; ComponentLink3Description: Package Specification; ComponentLink3URL: http://www.infineon.com/dgdl/IPA100N08N3_Rev2.0.pdf?folderId=db3a304313b8b5a60113cee8763b02d7&fileId=db3a30431d8a6b3c011dce0add50352e
footprint INF-PG-TO220-FP (FM, 3-Leads, Body 10.5x4.7mm, Pitch 2.54mm)
pins: 1 GATE, 2 DRAIN, 3 SOURCE

## IPA60R600E6
designator Q?
N-Channel CoolMOS E6 Power-Transistor, 600 V VDS, 7.3 A ID, -55 to 150 degC, PG-TO220-3-31, Tube, Green; Manufacturer: Infineon; PartNumber: IPA60R600E6; Green: TRUE; ID (max): 7.3 A; IDpuls (max): 19 A; Polarity: N; Ptot (max): 28 W; QG: 20.5 nC; RDS (on) (max): 600 mOhm; Rth: 4.5 K/W; RthJA (max): 80 K/W; VDS (max): 600 V; VGS(th) (max): 3.5 V; VGS(th) (min): 2.5 V; DatasheetVersion: Rev. 2.0; PackageVersion: Jan-07; PackageReference: PG-TO220-3-31; PackageDescription: 3-Pin Plastic (Green) Transistor Single Outline Package, 10.5 x 9.68 mm Body, 2.54 mm Pitch; Supplier 1: Mouser; Supplier Part Number 1: 726-IPA60R600E6; Supplier 2: Digi-Key; Supplier Part Number 2: IPA60R600E6-ND; Halogen-free: TRUE; Packing: Tube; RthJC (max): 4.5 K/W; Technology: CoolMOS E6; Mounting Technology: Through Hole; ComponentLink1Description: Manufacturer URL; ComponentLink1URL: http://www.infineon.com/; ComponentLink2Description: Datasheet; ComponentLink2URL: http://www.infineon.com/dgdl/IPA60R600E6+2.0.pdf?folderId=db3a3043163797a6011638933eda014b&fileId=db3a304327b8975001281b23402b1aa0; ComponentLink3Description: Package Specification; ComponentLink3URL: http://www.infineon.com/dgdl/IPA093N06N3_Rev2+0.pdf?folderId=db3a30431441fb5d01148ca9f1be0e77&fileId=db3a3043284aacd8012882bf84115438
footprint INF-PG-TO220-3-31 (FM, 3-Leads, Body 10.5x4.7mm, Pitch 2.54mm)
pins: 1 GATE, 2 DRAIN, 3 SOURCE

## IPA60R600P6
designator Q?
N-Channel CoolMOS(TM) P6 Power Transistor, 600 V VDS, -55 to 150 degC, PG-TO220, Reel, Green; Manufacturer: Infineon; PartNumber: IPA60R600P6; Green: TRUE; Packing: Tube; Polarity: FALSE; RDS (on) (max): 600 mOhm; VDS (max): 600 V; DatasheetVersion: Rev. 2.1; PackageVersion: Jan-07; PackageReference: PG-TO220-FP; PackageDescription: 3-Pin Plastic (Green) Transistor Single Outline Package, 10.5 x 9.68 mm Body, 2.54 mm Pitch; Supplier 1: Digi-Key; Supplier Part Number 1: IPA60R600P6-ND; Halogen-free: TRUE; Mounting Technology: Through Hole; ComponentLink1Description: Manufacturer URL; ComponentLink1URL: http://www.infineon.com/; ComponentLink2Description: Datasheet; ComponentLink2URL: http://www.infineon.com/dgdl/DS_IPx60R600P6_2_1.pdf?folderId=db3a3043156fd5730115c736bcc70ff2&fileId=db3a30433f2e70c5013f3862b5622681; ComponentLink3Description: Package Specification; ComponentLink3URL: http://www.infineon.com/dgdl/DS_IPx60R099P6_2_0.pdf?folderId=db3a3043156fd5730115c736bcc70ff2&fileId=5546d461464245d301468f0e6251673a
footprint INF-PG-TO220-FP (FM, 3-Leads, Body 10.5x4.7mm, Pitch 2.54mm)
pins: 1 GATE, 2 DRAIN, 3 SOURCE

## IPA60R750E6
designator Q?
N-Channel CoolMOS E6 Power-Transistor, 650 V VDS, 5.7 A ID, -55 to 150 degC, PG-TO220-3-31, Tube, Green; Manufacturer: Infineon; PartNumber: IPA60R750E6; Green: TRUE; ID (max): 5.7 A; IDpuls (max): 15.7 A; Polarity: N; Ptot (max): 27 W; QG: 17.2 nC; RDS (on) (max): 750 mOhm; Rth: 4.6 K/W; RthJA (max): 80 K/W; VDS (max): 650 V; VGS(th) (max): 3.5 V; VGS(th) (min): 2.5 V; DatasheetVersion: Rev. 2.0; PackageVersion: Jan-07; PackageReference: PG-TO220-3-31; PackageDescription: 3-Pin Plastic (Green) Transistor Single Outline Package, 10.5 x 9.68 mm Body, 2.54 mm Pitch; Supplier 1: Mouser; Supplier Part Number 1: 726-IPA60R750E6; Supplier 2: Digi-Key; Supplier Part Number 2: IPA60R750E6-ND; Halogen-free: TRUE; Packing: Tube; RthJC (max): 4.6 K/W; Technology: CoolMOS E6; Mounting Technology: Through Hole; ComponentLink1Description: Manufacturer URL; ComponentLink1URL: http://www.infineon.com/; ComponentLink2Description: Datasheet; ComponentLink2URL: http://www.infineon.com/dgdl/IPA60R750E6_2.0_.pdf?folderId=db3a3043163797a6011637d4bae7003b&fileId=db3a30432a14dd54012a191d8c272ae2; ComponentLink3Description: Package Specification; ComponentLink3URL: http://www.infineon.com/dgdl/IPA093N06N3_Rev2+0.pdf?folderId=db3a30431441fb5d01148ca9f1be0e77&fileId=db3a3043284aacd8012882bf84115438
footprint INF-PG-TO220-3-31 (FM, 3-Leads, Body 10.5x4.7mm, Pitch 2.54mm)
pins: 1 GATE, 2 DRAIN, 3 SOURCE

## IPA60R950C6
designator Q?
N-Channel CoolMOS C6 Power-Transistor, 600 V VDS, 4.4 A ID, -55 to 150 degC, PG-TO220-3-31, Tube, Green; Manufacturer: Infineon; PartNumber: IPA60R950C6; Green: TRUE; ID (max): 4.4 A; IDpuls (max): 12 A; Polarity: N; Ptot (max): 26 W; QG: 13 nC; RDS (on) (max): 950 mOhm; Rth: 4.9 K/W; RthJA (max): 80 K/W; VDS (max): 600 V; VGS(th) (max): 3.5 V; VGS(th) (min): 2.5 V; DatasheetVersion: Rev. 2.1; PackageVersion: Jan-07; PackageReference: PG-TO220-3-31; PackageDescription: 3-Pin Plastic (Green) Transistor Single Outline Package, 10.5 x 9.68 mm Body, 2.54 mm Pitch; Supplier 1: Mouser; Supplier Part Number 1: 726-IPA60R950C6; Supplier 2: Digi-Key; Supplier Part Number 2: IPA60R950C6-ND; Halogen-free: TRUE; Packing: Tube; RthJC (max): 4.9 K/W; Technology: CoolMOS C6; Mounting Technology: Through Hole; ComponentLink1Description: Manufacturer URL; ComponentLink1URL: http://www.infineon.com/; ComponentLink2Description: Datasheet; ComponentLink2URL: http://www.infineon.com/dgdl/IPA60R950C6_2.1.pdf?folderId=db3a30431ff98815012019af55de3f2c&fileId=db3a30432239cccd012297e49ef3449c; ComponentLink3Description: Package Specification; ComponentLink3URL: http://www.infineon.com/dgdl/IPA093N06N3_Rev2+0.pdf?folderId=db3a30431441fb5d01148ca9f1be0e77&fileId=db3a3043284aacd8012882bf84115438
footprint INF-PG-TO220-3-31 (FM, 3-Leads, Body 10.5x4.7mm, Pitch 2.54mm)
pins: 1 GATE, 2 DRAIN, 3 SOURCE

## IPA65R045C7
designator Q?
N-Channel CoolMOS(TM) C7 Power Transistor, 650 V VDS, -55 to 150 degC, PG-TO220, Tube, Green; Manufacturer: Infineon; PartNumber: IPA65R045C7; Green: TRUE; Polarity: FALSE; RDS (on) (max): 45 mOhm; VDS (max): 650 V; DatasheetVersion: Rev. 2.0; PackageVersion: Jan-07; PackageReference: PG-TO220-FP; PackageDescription: 3-Pin Plastic (Green) Transistor Single Outline Package, 10.5 x 9.68 mm Body, 2.54 mm Pitch; Supplier 1: Mouser; Supplier Part Number 1: N/A; Halogen-free: TRUE; Packing: Tube; Mounting Technology: Through Hole; ComponentLink1Description: Manufacturer URL; ComponentLink1URL: http://www.infineon.com/; ComponentLink2Description: Datasheet; ComponentLink2URL: http://www.infineon.com/dgdl/DS_IPA65R045C7_2_0.pdf?folderId=db3a3043156fd5730115c736bcc70ff2&fileId=db3a304343a131180143be42ae0358e6; ComponentLink3Description: Package Specification; ComponentLink3URL: http://www.infineon.com/dgdl/DS_IPx60R099P6_2_0.pdf?folderId=db3a3043156fd5730115c736bcc70ff2&fileId=5546d461464245d301468f0e6251673a
footprint INF-PG-TO220-FP (FM, 3-Leads, Body 10.5x4.7mm, Pitch 2.54mm)
pins: 1 GATE, 2 DRAIN, 3 SOURCE

## IPA65R065C7
designator Q?
N-Channel CoolMOS(TM) C7 Power Transistor, 650 V VDS, -55 to 150 degC, PG-TO220, Tube, Green; Manufacturer: Infineon; PartNumber: IPA65R065C7; Green: TRUE; Polarity: FALSE; RDS (on) (max): 65 mOhm; VDS (max): 650 V; DatasheetVersion: Rev. 2.0; PackageVersion: Jan-07; PackageReference: PG-TO220-FP; PackageDescription: 3-Pin Plastic (Green) Transistor Single Outline Package, 10.5 x 9.68 mm Body, 2.54 mm Pitch; Supplier 1: Mouser; Supplier Part Number 1: N/A; Halogen-free: TRUE; Packing: Tube; Mounting Technology: Through Hole; ComponentLink1Description: Manufacturer URL; ComponentLink1URL: http://www.infineon.com/; ComponentLink2Description: Datasheet; ComponentLink2URL: http://www.infineon.com/dgdl/DS_IPA65R065C7_2_0.pdf?folderId=db3a3043156fd5730115c736bcc70ff2&fileId=db3a304343be53c50143be66fa89001a; ComponentLink3Description: Package Specification; ComponentLink3URL: http://www.infineon.com/dgdl/DS_IPx60R099P6_2_0.pdf?folderId=db3a3043156fd5730115c736bcc70ff2&fileId=5546d461464245d301468f0e6251673a
footprint INF-PG-TO220-FP (FM, 3-Leads, Body 10.5x4.7mm, Pitch 2.54mm)
pins: 1 GATE, 2 DRAIN, 3 SOURCE

## IPA65R095C7
designator Q?
N-Channel CoolMOS(TM) C7 Power Transistor, 650 V VDS, -55 to 150 degC, PG-TO220, Tube, Green; Manufacturer: Infineon; PartNumber: IPA65R095C7; Green: TRUE; Polarity: FALSE; RDS (on) (max): 95 mOhm; VDS (max): 650 V; DatasheetVersion: Rev. 2.0; PackageVersion: Jan-07; PackageReference: PG-TO220-FP; PackageDescription: 3-Pin Plastic (Green) Transistor Single Outline Package, 10.5 x 9.68 mm Body, 2.54 mm Pitch; Supplier 1: Mouser; Supplier Part Number 1: N/A; Halogen-free: TRUE; Packing: Tube; Mounting Technology: Through Hole; ComponentLink1Description: Manufacturer URL; ComponentLink1URL: http://www.infineon.com/; ComponentLink2Description: Datasheet; ComponentLink2URL: http://www.infineon.com/dgdl/DS_IPA65R095C7_2_0.pdf?folderId=db3a3043156fd5730115c736bcc70ff2&fileId=db3a304343be53c50143be754266003b; ComponentLink3Description: Package Specification; ComponentLink3URL: http://www.infineon.com/dgdl/DS_IPx60R099P6_2_0.pdf?folderId=db3a3043156fd5730115c736bcc70ff2&fileId=5546d461464245d301468f0e6251673a
footprint INF-PG-TO220-FP (FM, 3-Leads, Body 10.5x4.7mm, Pitch 2.54mm)
pins: 1 GATE, 2 DRAIN, 3 SOURCE

## IPA65R099C6
designator Q?
N-Channel CoolMOS C6 Power-Transistor, 650 V VDS, 38 A ID, -55 to 150 degC, PG-TO220-3-31, Tube, Green; Manufacturer: Infineon; PartNumber: IPA65R099C6; Green: TRUE; ID (max): 38 A; IDpuls (max): 115 A; Polarity: N; Ptot (max): 35 W; QG: 127 nC; RDS (on) (max): 99 mOhm; Rth: 3.6 K/W; RthJA (max): 80 K/W; VDS (max): 650 V; VGS(th) (max): 3.5 V; VGS(th) (min): 2.5 V; DatasheetVersion: Rev. 2.0; PackageVersion: Jan-07; PackageReference: PG-TO220-3-31; PackageDescription: 3-Pin Plastic (Green) Transistor Single Outline Package, 10.5 x 9.68 mm Body, 2.54 mm Pitch; Halogen-free: TRUE; Packing: Tube; RthJC (max): 3.6 K/W; Technology: CoolMOS C6; Mounting Technology: Through Hole; ComponentLink1Description: Manufacturer URL; ComponentLink1URL: http://www.infineon.com/; ComponentLink2Description: Datasheet; ComponentLink2URL: http://www.infineon.com/dgdl/IPA65R099C6.pdf?folderId=db3a3043163797a6011637d4bae7003b&fileId=db3a3043341f67a1013440dbd0a55019; ComponentLink3Description: Package Specification; ComponentLink3URL: http://www.infineon.com/dgdl/IPA093N06N3_Rev2+0.pdf?folderId=db3a30431441fb5d01148ca9f1be0e77&fileId=db3a3043284aacd8012882bf84115438
footprint INF-PG-TO220-3-31 (FM, 3-Leads, Body 10.5x4.7mm, Pitch 2.54mm)
pins: 1 GATE, 2 DRAIN, 3 SOURCE

## IPA65R110CFD
designator Q?
N-Channel CoolMOS CFD2 Power-Transistor, 650 V VDS, 31.2 A ID, -55 to 150 degC, PG-TO220-3-31, Tube, Green; Manufacturer: Infineon; PartNumber: IPA65R110CFD; Green: TRUE; ID (max): 31.2 A; IDpuls (max): 99.6 A; Polarity: N; Ptot (max): 34.7 W; QG: 118 nC; RDS (on) (max): 110 mOhm; Rth: 3.6 K/W; RthJA (max): 80 K/W; VDS (max): 650 V; VGS(th) (max): 4.5 V; VGS(th) (min): 3.5 V; DatasheetVersion: Rev. 2.6; PackageVersion: Jan-07; PackageReference: PG-TO220-3-31; PackageDescription: 3-Pin Plastic (Green) Transistor Single Outline Package, 10.5 x 9.68 mm Body, 2.54 mm Pitch; Supplier 1: Mouser; Supplier Part Number 1: 726-IPA65R110CFD; Supplier 2: Digi-Key; Supplier Part Number 2: IPA65R110CFD-ND; Halogen-free: TRUE; Packing: Tube; RthJC (max): 3.6 K/W; Technology: CoolMOS CFD2; Mounting Technology: Through Hole; ComponentLink1Description: Manufacturer URL; ComponentLink1URL: http://www.infineon.com/; ComponentLink2Description: Datasheet; ComponentLink2URL: http://www.infineon.com/dgdl/DS_IPX65R110CFD_2_61.pdf?folderId=db3a3043156fd5730115c736bcc70ff2&fileId=db3a30433004641301306abd8e2041b1; ComponentLink3Description: Package Specification; ComponentLink3URL: http://www.infineon.com/dgdl/IPA093N06N3_Rev2+0.pdf?folderId=db3a30431441fb5d01148ca9f1be0e77&fileId=db3a3043284aacd8012882bf84115438
footprint INF-PG-TO220-3-31 (FM, 3-Leads, Body 10.5x4.7mm, Pitch 2.54mm)
pins: 1 GATE, 2 DRAIN, 3 SOURCE

## IPA65R125C7
designator Q?
N-Channel CoolMOS(TM) C7 Power Transistor, 650 V VDS, -55 to 150 degC, PG-TO220, Tube, Green; Manufacturer: Infineon; PartNumber: IPA65R125C7; Green: TRUE; Polarity: FALSE; RDS (on) (max): 125 mOhm; VDS (max): 650 V; DatasheetVersion: Rev. 2.0; PackageVersion: Jan-07; PackageReference: PG-TO220-FP; PackageDescription: 3-Pin Plastic (Green) Transistor Single Outline Package, 10.5 x 9.68 mm Body, 2.54 mm Pitch; Supplier 1: Mouser; Supplier Part Number 1: N/A; Halogen-free: TRUE; Packing: Tube; Mounting Technology: Through Hole; ComponentLink1Description: Manufacturer URL; ComponentLink1URL: http://www.infineon.com/; ComponentLink2Description: Datasheet; ComponentLink2URL: http://www.infineon.com/dgdl/DS_IPA65R125C7_2_0.pdf?folderId=db3a3043156fd5730115c736bcc70ff2&fileId=db3a304343be53c50143be863f5d005b; ComponentLink3Description: Package Specification; ComponentLink3URL: http://www.infineon.com/dgdl/DS_IPx60R099P6_2_0.pdf?folderId=db3a3043156fd5730115c736bcc70ff2&fileId=5546d461464245d301468f0e6251673a
footprint INF-PG-TO220-FP (FM, 3-Leads, Body 10.5x4.7mm, Pitch 2.54mm)
pins: 1 GATE, 2 DRAIN, 3 SOURCE

## IPA65R150CFD
designator Q?
N-Channel CoolMOS CFD2 Power-Transistor, 650 V VDS, 22.4 A ID, -55 to 150 degC, PG-TO220-3-31, Tube, Green; Manufacturer: Infineon; PartNumber: IPA65R150CFD; Green: TRUE; ID (max): 22.4 A; IDpuls (max): 72 A; Polarity: N; Ptot (max): 34.7 W; QG: 86 nC; RDS (on) (max): 150 mOhm; Rth: 3.6 K/W; RthJA (max): 80 K/W; VDS (max): 650 V; VGS(th) (max): 4.5 V; VGS(th) (min): 3.5 V; DatasheetVersion: Rev. 2.0; PackageVersion: Jan-07; PackageReference: PG-TO220-3-31; PackageDescription: 3-Pin Plastic (Green) Transistor Single Outline Package, 10.5 x 9.68 mm Body, 2.54 mm Pitch; Halogen-free: TRUE; Packing: Tube; RthJC (max): 3.6 K/W; Technology: CoolMOS CFD2; Mounting Technology: Through Hole; ComponentLink1Description: Manufacturer URL; ComponentLink1URL: http://www.infineon.com/; ComponentLink2Description: Datasheet; ComponentLink2URL: http://www.infineon.com/dgdl/DS_IPX65R150CFD__2_01.pdf?folderId=db3a3043156fd5730115c736bcc70ff2&fileId=db3a3043338c8ac80133ace218433063; ComponentLink3Description: Package Specification; ComponentLink3URL: http://www.infineon.com/dgdl/IPA093N06N3_Rev2+0.pdf?folderId=db3a30431441fb5d01148ca9f1be0e77&fileId=db3a3043284aacd8012882bf84115438
footprint INF-PG-TO220-3-31 (FM, 3-Leads, Body 10.5x4.7mm, Pitch 2.54mm)
pins: 1 GATE, 2 DRAIN, 3 SOURCE

## IPA65R190C6
designator Q?
N-Channel CoolMOS C6 Power-Transistor, 650 V VDS, 20.2 A ID, -55 to 150 degC, PG-TO220-3-31, Tube, Green; Manufacturer: Infineon; PartNumber: IPA65R190C6; Green: TRUE; ID (max): 20.2 A; IDpuls (max): 66 A; Polarity: N; Ptot (max): 34 W; QG: 73 nC; RDS (on) (max): 190 mOhm; Rth: 3.7 K/W; RthJA (max): 80 K/W; VDS (max): 650 V; VGS(th) (max): 3.5 V; VGS(th) (min): 2.5 V; DatasheetVersion: Rev. 2.0; PackageVersion: Jan-07; PackageReference: PG-TO220-3-31; PackageDescription: 3-Pin Plastic (Green) Transistor Single Outline Package, 10.5 x 9.68 mm Body, 2.54 mm Pitch; Supplier 1: Mouser; Supplier Part Number 1: 726-IPA65R190C6; Supplier 2: Digi-Key; Supplier Part Number 2: IPA65R190C6-ND; Halogen-free: TRUE; Packing: Tube; RthJC (max): 3.7 K/W; Technology: CoolMOS C6; Mounting Technology: Through Hole; ComponentLink1Description: Manufacturer URL; ComponentLink1URL: http://www.infineon.com/; ComponentLink2Description: Datasheet; ComponentLink2URL: http://www.infineon.com/dgdl/IPA65R190C6_2_0.pdf?folderId=db3a3043163797a6011637d4bae7003b&fileId=db3a3043300464130130077c79763ba7; ComponentLink3Description: Package Specification; ComponentLink3URL: http://www.infineon.com/dgdl/IPA093N06N3_Rev2+0.pdf?folderId=db3a30431441fb5d01148ca9f1be0e77&fileId=db3a3043284aacd8012882bf84115438
footprint INF-PG-TO220-3-31 (FM, 3-Leads, Body 10.5x4.7mm, Pitch 2.54mm)
pins: 1 GATE, 2 DRAIN, 3 SOURCE

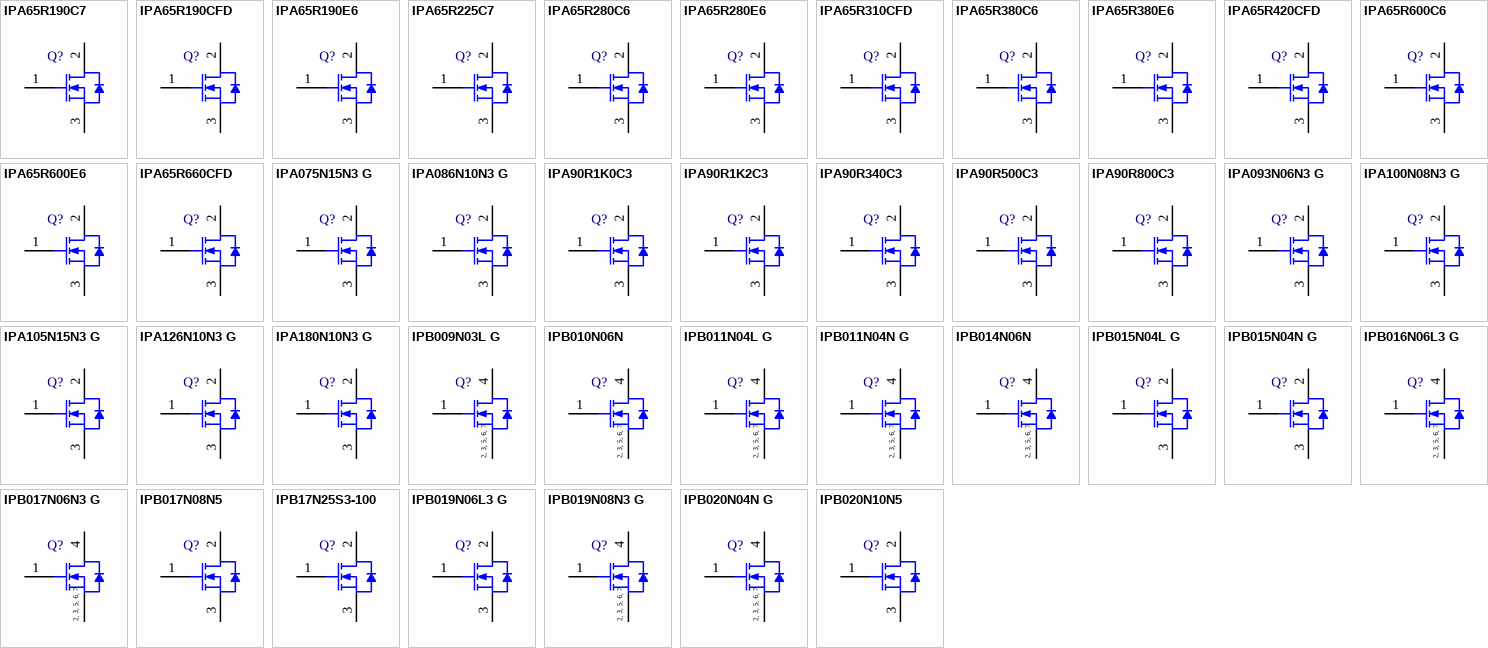
[diagram p11: symbols IPA65R190C7 to IPB020N10N5]

## IPA65R190C7
designator Q?
N-Channel CoolMOS(TM) C7 Power Transistor, 650 V VDS, -55 to 150 degC, PG-TO220, Tube, Green; Manufacturer: Infineon; PartNumber: IPA65R190C7; Green: TRUE; Polarity: FALSE; RDS (on) (max): 190 mOhm; VDS (max): 650 V; DatasheetVersion: Rev. 2.0; PackageVersion: Jan-07; PackageReference: PG-TO220-FP; PackageDescription: 3-Pin Plastic (Green) Transistor Single Outline Package, 10.5 x 9.68 mm Body, 2.54 mm Pitch; Supplier 1: Farnell; Supplier Part Number 1: 2420509; Supplier 2: Newark; Supplier Part Number 2: 54X5223; Supplier 3: Mouser; Supplier Part Number 3: N/A; Halogen-free: TRUE; Packing: Tube; Mounting Technology: Through Hole; ComponentLink1Description: Manufacturer URL; ComponentLink1URL: http://www.infineon.com/; ComponentLink2Description: Datasheet; ComponentLink2URL: http://www.infineon.com/dgdl/DS_IPA65R190C7_2_0.pdf?folderId=db3a3043156fd5730115c736bcc70ff2&fileId=db3a304343be53c50143be94da350082; ComponentLink3Description: Package Specification; ComponentLink3URL: http://www.infineon.com/dgdl/DS_IPx60R099P6_2_0.pdf?folderId=db3a3043156fd5730115c736bcc70ff2&fileId=5546d461464245d301468f0e6251673a
footprint INF-PG-TO220-FP (FM, 3-Leads, Body 10.5x4.7mm, Pitch 2.54mm)
pins: 1 GATE, 2 DRAIN, 3 SOURCE

## IPA65R190CFD
designator Q?
N-Channel CoolMOS C6 CFD Power-Transistor, 650 V VDS, 17.5 A ID, -55 to 150 degC, PG-TO220-3-31, Tube, Green; Manufacturer: Infineon; PartNumber: IPA65R190CFD; Green: TRUE; ID (max): 17.5 A; IDpuls (max): 57.2 A; Polarity: N; Ptot (max): 34 W; QG: 68 nC; RDS (on) (max): 190 mOhm; Rth: 3.7 K/W; RthJA (max): 80 K/W; VDS (max): 650 V; VGS(th) (max): 4.5 V; VGS(th) (min): 3.5 V; DatasheetVersion: Rev. 2.2; PackageVersion: Jan-07; PackageReference: PG-TO220-3-31; PackageDescription: 3-Pin Plastic (Green) Transistor Single Outline Package, 10.5 x 9.68 mm Body, 2.54 mm Pitch; Supplier 1: Mouser; Supplier Part Number 1: 726-IPA65R190CFD; Supplier 2: Digi-Key; Supplier Part Number 2: IPA65R190CFD-ND; Halogen-free: TRUE; Packing: Tube; RthJC (max): 3.7 K/W; Technology: CoolMOS CFD2; Mounting Technology: Through Hole; ComponentLink1Description: Manufacturer URL; ComponentLink1URL: http://www.infineon.com/; ComponentLink2Description: Datasheet; ComponentLink2URL: http://www.infineon.com/dgdl/DS_IPX65R190CFD__2_2.pdf?folderId=db3a3043163797a6011637d4bae7003b&fileId=db3a30432fd0c54a012fded065a8309b; ComponentLink3Description: Package Specification; ComponentLink3URL: http://www.infineon.com/dgdl/IPA093N06N3_Rev2+0.pdf?folderId=db3a30431441fb5d01148ca9f1be0e77&fileId=db3a3043284aacd8012882bf84115438
footprint INF-PG-TO220-3-31 (FM, 3-Leads, Body 10.5x4.7mm, Pitch 2.54mm)
pins: 1 GATE, 2 DRAIN, 3 SOURCE

## IPA65R190E6
designator Q?
N-Channel CoolMOS E6 Power-Transistor, 650 V VDS, 20.2 A ID, -55 to 150 degC, PG-TO220-3-31, Tube, Green; Manufacturer: Infineon; PartNumber: IPA65R190E6; Green: TRUE; ID (max): 20.2 A; IDpuls (max): 66 A; Polarity: N; Ptot (max): 34 W; QG: 73 nC; RDS (on) (max): 190 mOhm; Rth: 3.7 K/W; RthJA (max): 80 K/W; VDS (max): 650 V; VGS(th) (max): 3.5 V; VGS(th) (min): 2.5 V; DatasheetVersion: Rev. 2.0; PackageVersion: Jan-07; PackageReference: PG-TO220-3-31; PackageDescription: 3-Pin Plastic (Green) Transistor Single Outline Package, 10.5 x 9.68 mm Body, 2.54 mm Pitch; Supplier 1: Mouser; Supplier Part Number 1: 726-IPA65R190E6; Supplier 2: Digi-Key; Supplier Part Number 2: IPA65R190E6-ND; Halogen-free: TRUE; Packing: Tube; RthJC (max): 3.7 K/W; Technology: CoolMOS E6; Mounting Technology: Through Hole; ComponentLink1Description: Manufacturer URL; ComponentLink1URL: http://www.infineon.com/; ComponentLink2Description: Datasheet; ComponentLink2URL: http://www.infineon.com/dgdl/IPA65R190E6_2_0.pdf?folderId=db3a3043156fd5730115c736bcc70ff2&fileId=db3a30433004641301300747ef313b6b; ComponentLink3Description: Package Specification; ComponentLink3URL: http://www.infineon.com/dgdl/IPA093N06N3_Rev2+0.pdf?folderId=db3a30431441fb5d01148ca9f1be0e77&fileId=db3a3043284aacd8012882bf84115438
footprint INF-PG-TO220-3-31 (FM, 3-Leads, Body 10.5x4.7mm, Pitch 2.54mm)
pins: 1 GATE, 2 DRAIN, 3 SOURCE

## IPA65R225C7
designator Q?
N-Channel CoolMOS(TM) C7 Power Transistor, 650 V VDS, -55 to 150 degC, PG-TO220, Tube, Green; Manufacturer: Infineon; PartNumber: IPA65R225C7; Green: TRUE; Polarity: FALSE; RDS (on) (max): 225 mOhm; VDS (max): 650 V; DatasheetVersion: Rev. 2.0; PackageVersion: Jan-07; PackageReference: PG-TO220-FP; PackageDescription: 3-Pin Plastic (Green) Transistor Single Outline Package, 10.5 x 9.68 mm Body, 2.54 mm Pitch; Supplier 1: Mouser; Supplier Part Number 1: N/A; Halogen-free: TRUE; Packing: Tube; Mounting Technology: Through Hole; ComponentLink1Description: Manufacturer URL; ComponentLink1URL: http://www.infineon.com/; ComponentLink2Description: Datasheet; ComponentLink2URL: http://www.infineon.com/dgdl/DS_IPA65R225C7_2_0.pdf?folderId=db3a3043156fd5730115c736bcc70ff2&fileId=db3a304343bec32d0143bf743f7c0c63; ComponentLink3Description: Package Specification; ComponentLink3URL: http://www.infineon.com/dgdl/DS_IPx60R099P6_2_0.pdf?folderId=db3a3043156fd5730115c736bcc70ff2&fileId=5546d461464245d301468f0e6251673a
footprint INF-PG-TO220-FP (FM, 3-Leads, Body 10.5x4.7mm, Pitch 2.54mm)
pins: 1 GATE, 2 DRAIN, 3 SOURCE